# EAGLE library part 618026325223 (library 632723100011_Eagle_WR-USB_rev19b)
WR-DSUB Female High Density Angled PCB Connector without Hex Screw 26 Pins=>Code : Con_I-O_DSUB_PCB_Female_wo-screw_618262325223 <https://katalog.we-online.com/media/images/v2/o33091v209%20Family_WR-DSUB_6180xx325223.jpg> Details see: https://katalog.we-online.com/en/em/DSUB_FEMALE_HIGH_DENSITY_ANGLED_PCB_CONNECTOR_W_O_HEX_SCREW_6180XX325223 Updated by Ella Wu 2019-03-21 2019 (C) Würth Elektronik
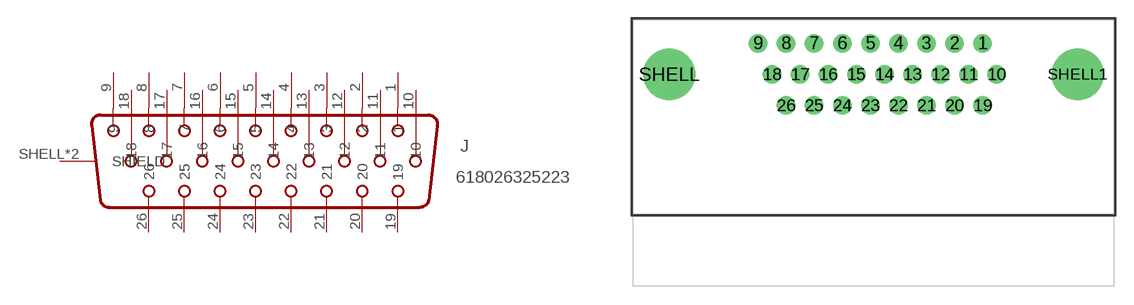
[diagram p61: symbol with the pads of 618026325223; footprint 618026325223]

Designator prefix J

## 618026325223 (WE-NUMBER: 618026325223)  [618026325223]
1  1
2  2
3  3
4  4
5  5
6  6
7  7
8  8
9  9
10  10
11  11
12  12
13  13
14  14
15  15
16  16
17  17
18  18
19  19
20  20
21  21
22  22
23  23
24  24
25  25
26  26
SHELL  SHIELD
SHELL1  SHIELD

## Footprint 618026325223 (pad centres in mm)
WR-DSUB Female High Density Angled PCB Connector without Hex Screw, 26 Pins
drill 1: 1 8.906,2.54; 2 6.616,2.54; 3 4.326,2.54; 4 2.036,2.54; 5 -0.254,2.54; 6 -2.544,2.54; 7 -4.834,2.54; 8 -7.124,2.54; 9 -9.414,2.54; 10 10.046,0; 11 7.756,0; 12 5.466,0; 13 3.176,0; 14 0.886,0; 15 -1.404,0; 16 -3.694,0; 17 -5.984,0; 18 -8.274,0; 19 8.906,-2.54; 20 6.616,-2.54; 21 4.326,-2.54; 22 2.036,-2.54; 23 -0.254,-2.54; 24 -2.544,-2.54; 25 -4.834,-2.54; 26 -7.124,-2.54
drill 3.2: SHELL -16.66,0; SHELL1 16.66,0